# Altium footprint library TPS564242DRLR.PcbLib: 3 footprints
Each footprint in its own frame and in the unit in brackets; x right, y up, seen from the top. Pads: shape width x height; smd on the part's side, far side on the other; paste and mask are expansions set on the pad; w line width, h text height; cw(c..) or ccw(c..) is an arc to the next point about the centre after c.
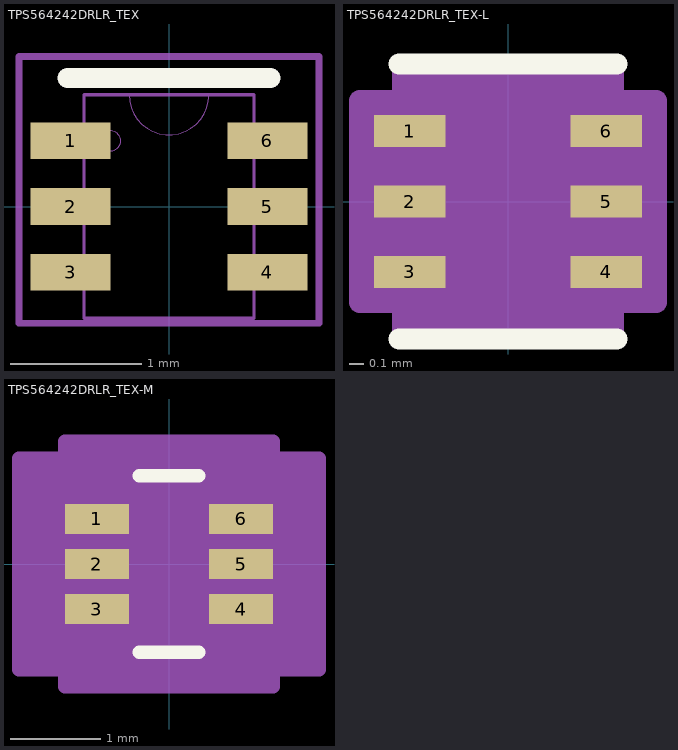
[diagram p0: the footprints below, top view; thin cyan lines are the x and y axes]

## TPS564242DRLR_TEX [mil]
pads (6):
  rect 24x11 smd paste+0 mask+1: 1(-29.5,19.69) 2(-29.5,0) 3(-29.5,-19.69) 4(29.5,-19.69) 5(29.5,0) 6(29.5,19.69)
Top Overlay:
  lines w6: -30.5,38.5 30.5,38.5
Mechanical 13:
  circle w0: c-17.5,19.69 r3
  lines w0: -12,33.5 ccw(c0,33.5) 12,33.5
  lines w1: -25.5,-33.5 25.5,-33.5 25.5,33.5 -25.5,33.5 -25.5,-33.5
Mechanical 15:
  lines w1.97: -45,-35 45,-35 45,45 -45,45 -45,-35
3D body "TPS564242DRLR_TEX.step": height 24.09, standoff 0, extent -33.5,-33.5 33.5,33.5

## TPS564242DRLR_TEX-L [mil]
pads (6):
  rect 20x9 smd paste+0 mask+0: 1(-27.5,19.69) 2(-27.5,0) 3(-27.5,-19.69) 4(27.5,-19.69) 5(27.5,0) 6(27.5,19.69)
Top Overlay:
  lines w6: -30.5,-38.5 30.5,-38.5 ; -30.5,38.5 30.5,38.5
Mechanical 13:
  circle w0: c-17.5,19.69 r3
  lines w0: -12,33.5 ccw(c0,33.5) 12,33.5
  lines w1: -25.5,-33.5 25.5,-33.5 25.5,33.5 -25.5,33.5 -25.5,-33.5
Mechanical 15:
  region: 29.5,-37.5 -29.5,-37.5 -29.5,-28.19 -41.5,-28.19 -41.5,28.19 -29.5,28.19 -29.5,37.5 29.5,37.5 29.5,28.19 41.5,28.19 41.5,-28.19 29.5,-28.19
  lines w6: -41.5,-28.19 -29.5,-28.19 -29.5,-37.5 29.5,-37.5 29.5,-28.19 41.5,-28.19 41.5,28.19 29.5,28.19 29.5,37.5 -29.5,37.5 -29.5,28.19 -41.5,28.19 -41.5,-28.19
3D body "TPS564242DRLR_TEX.step": height 24.09, standoff 0, extent -33.5,-33.5 33.5,33.5

## TPS564242DRLR_TEX-M [mil]
pads (6):
  rect 28x13 smd paste+0 mask+0: 1(-31.5,19.69) 2(-31.5,0) 3(-31.5,-19.69) 4(31.5,-19.69) 5(31.5,0) 6(31.5,19.69)
Top Overlay:
  lines w6: -13.02,-38.5 13.02,-38.5 ; -13.02,38.5 13.02,38.5
Mechanical 13:
  circle w0: c-17.5,19.69 r3
  lines w0: -12,33.5 ccw(c0,33.5) 12,33.5
  lines w1: -25.5,-33.5 25.5,-33.5 25.5,33.5 -25.5,33.5 -25.5,-33.5
Mechanical 15:
  region: 45.5,-53.5 -45.5,-53.5 -45.5,-46.19 -65.5,-46.19 -65.5,46.19 -45.5,46.19 -45.5,53.5 45.5,53.5 45.5,46.19 65.5,46.19 65.5,-46.19 45.5,-46.19
  lines w6: -65.5,-46.19 -45.5,-46.19 -45.5,-53.5 45.5,-53.5 45.5,-46.19 65.5,-46.19 65.5,46.19 45.5,46.19 45.5,53.5 -45.5,53.5 -45.5,46.19 -65.5,46.19 -65.5,-46.19
3D body "TPS564242DRLR_TEX.step": height 24.09, standoff 0, extent -33.5,-33.5 33.5,33.5